# EAGLE library part LTC4419CMSEPBF (library microfloat)
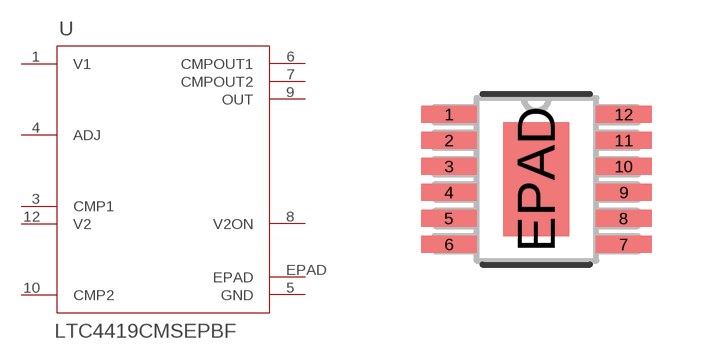
[diagram p8: symbol with the pads of MSE_12_ADI; footprint MSE_12_ADI]

Designator prefix U

## LTC4419CMSEPBF (BUILT_BY: EMA_Jessica; COPYRIGHT: Copyright (C) 2016 Accelerated Designs. All rights reserved; MANUFACTURER_PART_NUMBER: LTC4419CMSE#PBF; SOURCELIBRARY: Analog_Devices_2018-09-28; VENDOR: Analog Devices Inc)  [MSE_12_ADI]
1  V1
3  CMP1
4  ADJ  pas
5  GND  pas
6  CMPOUT1  out
7  CMPOUT2  out
8  V2ON  pas
9  OUT  out
10  CMP2
12  V2
EPAD  EPAD  pas

## Footprint MSE_12_ADI (pad centres in mm)
smd 1.397 x 0.432: 1 -2.184,1.625; 2 -2.184,0.975; 3 -2.184,0.325; 4 -2.184,-0.325; 5 -2.184,-0.975; 6 -2.184,-1.625; 7 2.184,-1.625; 8 2.184,-0.975; 9 2.184,-0.325; 10 2.184,0.325; 11 2.184,0.975; 12 2.184,1.625
smd 1.651 x 2.845: EPAD 0,0